# Altium schematic symbol library L102021ML04Q.SchLib: 1 symbol
Pins are listed as number, name and electrical type; pins without a type are passive.

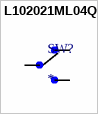
[diagram p0: symbol L102021ML04Q]

## L102021ML04Q
designator SW?
SWITCH SLIDE SPDT 4A 125V / Manufacturer PN: L102021ML04Q
footprint L102021ML04Q
pins: 1, 2, 3